# Altium schematic symbol library RELAYS.SchLib: 13 symbols
Pins are listed as number, name and electrical type; pins without a type are passive.

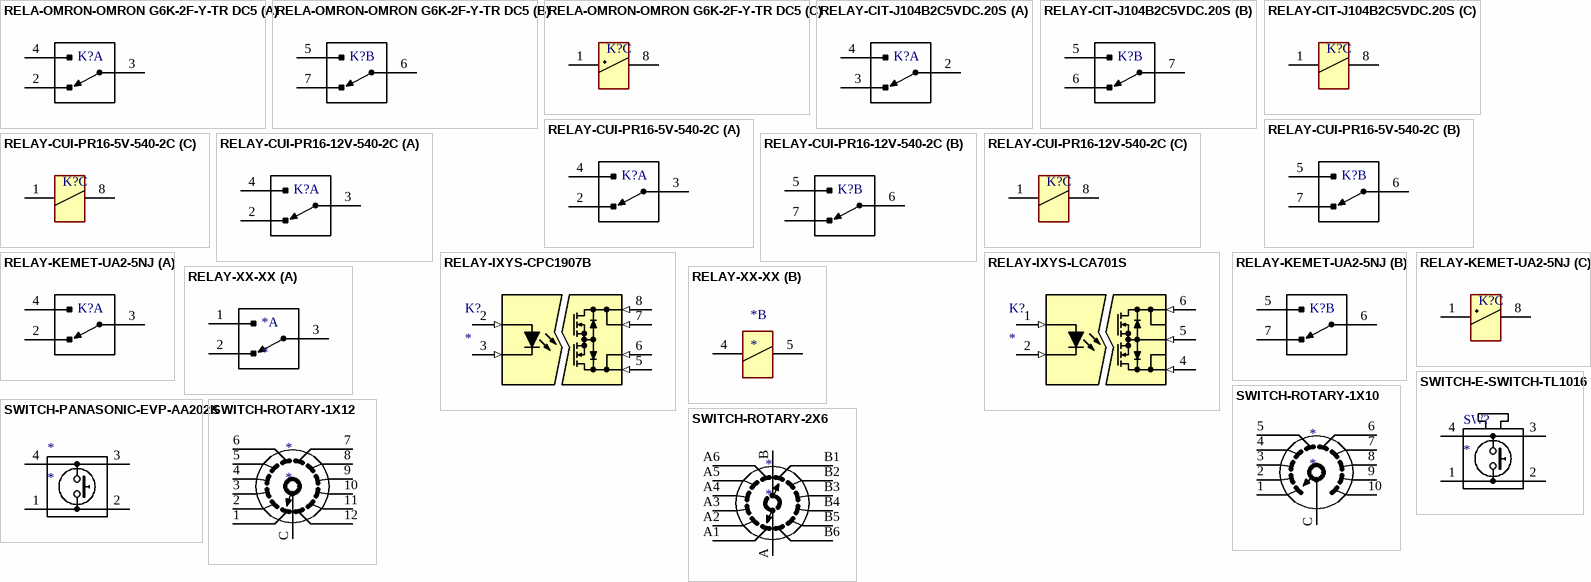
[diagram p0: symbols RELA-OMRON-OMRON G6K-2F-Y-TR DC5 to SWITCH-ROTARY-2X6]

## RELA-OMRON-OMRON G6K-2F-Y-TR DC5
designator K?  (value not drawn)
Manufacturer 1: OMRON; Manufacturer Part Number 1: G6K-2F-Y-TR DC5; DIGIKEY: 39-G6KU-2F-Y-TRDC5CT-ND
part A pins: 2 NC, 3 COM, 4 NO
part B pins: 5 NO, 6 COM, 7 NC
part C pins: 1, 8

## RELAY-CIT-J104B2C5VDC.20S
designator K?, comment J104B2C5VDC  (value not drawn)
RELAY,DPDT,5V COIL,250VAC,3A; Manufacturer 1: CIT; Manufacturer Part Number 1: J104B2C5VDC.20S; DIGIKEY: 2449-J104B2C5VDC.20S-ND
footprint RELAY-CIT-J104B2C5VDC.20S
part A pins: 2 NC, 3 COM, 4 NO
part B pins: 5 NO, 6 COM, 7 NC
part C pins: 1, 8

## RELAY-CUI-PR16-5V-540-2C
designator K?  (value not drawn)
RELAY,DPDT,5VCOIL,250VAC,5A; Manufacturer 1: SAME SKY; Manufacturer Part Number 1: PR16-5V-540-2C; DIGIKEY: 2223-PR16-5V-540-2C-ND
part A pins: 2 NC, 3 COM, 4 NO
part B pins: 5 NO, 6 COM, 7 NC
part C pins: 1, 8

## RELAY-CUI-PR16-12V-540-2C
designator K?  (value not drawn)
RELAY,DPDT,12V COIL,250VAC,5A; Manufacturer 1: SAME SKY; Manufacturer Part Number 1: PR16-12V-540-2C; DIGIKEY: 2223-PR16-12V-540-2C-ND
part A pins: 2 NC, 3 COM, 4 NO
part B pins: 5 NO, 6 COM, 7 NC
part C pins: 1, 8

## RELAY-IXYS-CPC1907B
designator K?
RELAY,OPTOMOS,6A,60V,AC,IXYS,CPC1907B,SMD; DIGIKEY: 212-CPC1907B-ND; Manufacturer 1: IXYS; Manufacturer Part Number 1: CPC1907B
footprint SO508P1676-8N
pins: 2 (in), 3 (in), 5 (in), 6 (in), 7 (in), 8 (in)

## RELAY-IXYS-LCA701S
designator K?
RELAY,OPTOMOS,1.5A,100V,AC,IXYS,LCA701S,SMD; Manufacturer Part Number 1: CPC1907B; DIGIKEY: 212-CPC1907B-ND; Manufacturer 1: IXYS
footprint SO254P960-6N (Surface Mount DIP Optocoupler  0.4 in wide)
pins: 1 (in), 2 (in), 4 (in), 5 (in), 6 (in)

## RELAY-KEMET-UA2-5NJ
designator K?  (value not drawn)
RELAY,DPDT,1A,250VAC,220VDC,5V COIL,KEMET,UA2-5NJ; DIGIKEY: 399-UA2-5NJ-ND; Manufacturer 1: KEMET; Manufacturer Part Number 1: UA2-5NJ
footprint RELAY-KEMET-UA2-5NJ
part A pins: 2 NC, 3 COM, 4 NO
part B pins: 5 NO, 6 COM, 7 NC
part C pins: 1, 8

## RELAY-XX-XX
designator *
part A pins: 1 NO, 2 NC, 3 COM
part B pins: 4, 5

## SWITCH-E-SWITCH-TL1016
designator SW?
footprint SWITCH-ESWITCH-TL1016
pins: 1, 2, 3, 4

## SWITCH-PANASONIC-EVP-AA202K
designator *
footprint SWITCH-PANASONIC-EVP-AA202K
pins: 1, 2, 3, 4

## SWITCH-ROTARY-1X10
designator *
pins: 1, 2, 3, 4, 5, 6, 7, 8, 9, 10, C

## SWITCH-ROTARY-1X12
designator *
pins: 1, 2, 3, 4, 5, 6, 7, 8, 9, 10, 11, 12, C

## SWITCH-ROTARY-2X6
designator *
pins: A, A1, A2, A3, A4, A5, A6, B, B1 1, B2 2, B3 3, B4 4, B5 5, B6 6